# EAGLE library part ADNS-6090 (library !Treadmill)
Avago ADNS-6090 Gaming Laser Mouse Sensor
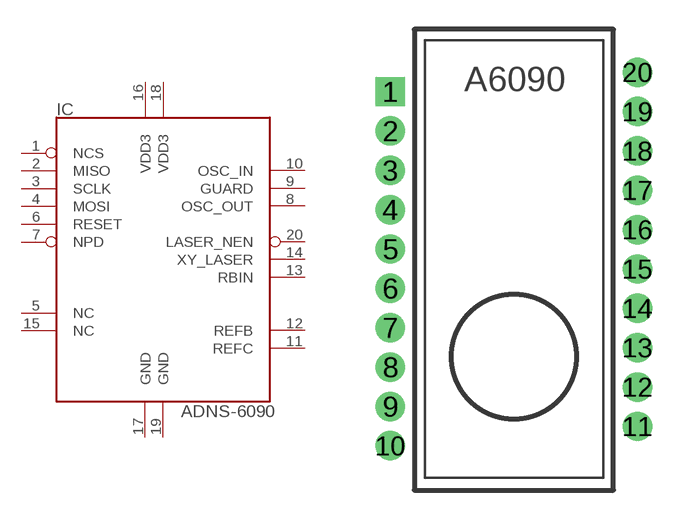
[diagram p8: symbol with the pads of ADNS-6090; footprint ADNS-6090]

Designator prefix IC

## ADNS-6090  [ADNS-6090]
1  NCS  in
2  MISO  out
3  SCLK  in
4  MOSI  in
5  NC  nc
6  RESET  in
7  NPD  in
8  OSC_OUT  out
9  GUARD  in
10  OSC_IN  in
11  REFC
12  REFB
13  RBIN
14  XY_LASER  out
15  NC  nc
16  VDD3  pwr
17  GND  pwr
18  VDD3  pwr
19  GND  pwr
20  LASER_NEN  in

## Footprint ADNS-6090 (pad centres in mm)
Avago ADNS-6090 Offset DIP
drill 0.991 square: 1 -6.299,0
drill 0.991 round: 2 -6.299,-2.007; 3 -6.299,-4.013; 4 -6.299,-6.02; 5 -6.299,-8.026; 6 -6.299,-10.033; 7 -6.299,-12.04; 8 -6.299,-14.046; 9 -6.299,-16.053; 10 -6.299,-18.059; 11 6.299,-17.069; 12 6.299,-15.062; 13 6.299,-13.056; 14 6.299,-11.049; 15 6.299,-9.042; 16 6.299,-7.036; 17 6.299,-5.029; 18 6.299,-3.023; 19 6.299,-1.016; 20 6.299,0.991